# Altium schematic symbol library MYRRA-44121.SchLib: 1 symbol
Pins are listed as number, name and electrical type; pins without a type are passive.

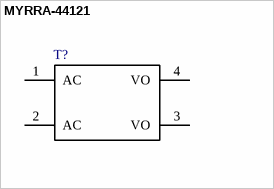
[diagram p0: symbol MYRRA-44121]

## MYRRA-44121
designator T?
This is a MYRRA-44121 PCB Transformer (230 VAC to 6 VAC); Manufacturer_Name: MULTICOMP; Manufacturer_Part_Number: MP-LDE06-20B24; Geometry.Height: 15.86mm; Mouser Part Number: *; Mouser Price/Stock: *; Arrow Part Number: *; Arrow Price/Stock: *; Mouser Testing Part Number: *; Mouser Testing Price/Stock: *; Datasheet Link: https://www.farnell.com/datasheets/3155173.pdf
footprint MYRRA-44121
pins: 1 AC, 2 AC, 3 VO, 4 VO